# Altium footprint library KMMXBSMT5SB30TR.PcbLib: 1 footprints
Each footprint in its own frame and in the unit in brackets; x right, y up, seen from the top. Pads: shape width x height; smd on the part's side, far side on the other; paste and mask are expansions set on the pad; w line width, h text height; cw(c..) or ccw(c..) is an arc to the next point about the centre after c.
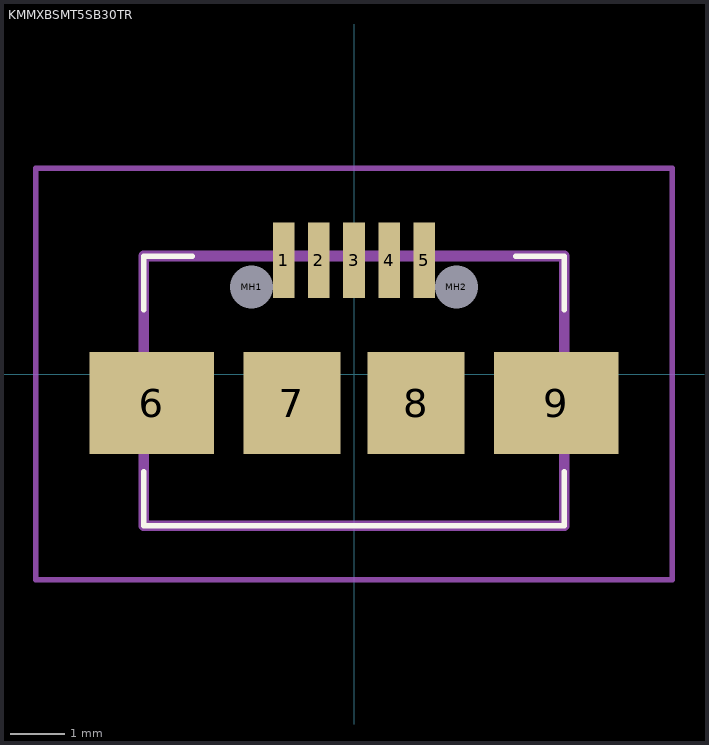
[diagram p0: the footprint, top view; thin cyan lines are the x and y axes]

## KMMXBSMT5SB30TR [mm]
pads (11):
  rect 0.4x1.4 smd: 1(-1.3,2.113) 2(-0.65,2.113) 3(0,2.113) 4(0.65,2.113) 5(1.3,2.113)
  rect 2.3x1.9 smd: 6(-3.75,-0.538) 9(3.75,-0.538)
  rect 1.8x1.9 smd: 7(-1.15,-0.538) 8(1.15,-0.538)
  round 0.4 hole 0.8 unplated: MH1(-1.9,1.612) MH2(1.9,1.612)
Top Overlay:
  lines w0.1: -3.9,-1.813 -3.9,-2.813 3.9,-2.813 3.9,-1.813 ; -3.9,1.187 -3.9,2.187 -3,2.187 ; 3,2.187 3.9,2.187 3.9,1.187
Mechanical 15:
  lines w0.2: -3.9,-2.813 3.9,-2.813 3.9,2.187 -3.9,2.187 -3.9,-2.813
Mechanical 20:
  lines w0.1: -5.9,-3.813 5.9,-3.813 5.9,3.813 -5.9,3.813 -5.9,-3.813
3D body "KMMX-BSMT5SB-30TR.stp": height 5.8, standoff -4.65, extent -10,-3.376 10,3.376